# EAGLE library part TPS552882 (library ds_ic_vreg)
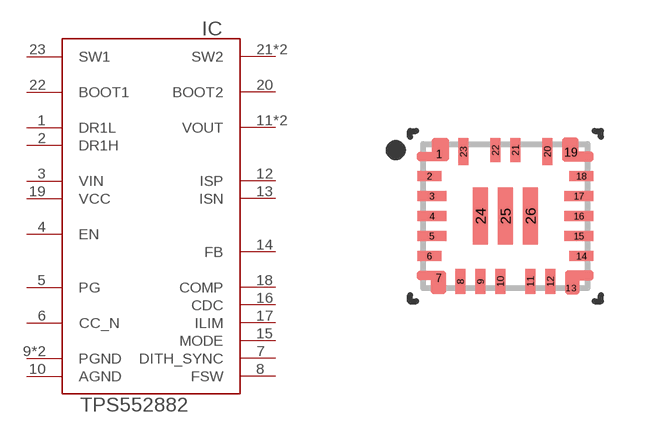
[diagram p22: symbol with the pads of RPM0026A-MFG; footprint RPM0026A-MFG]

Designator prefix IC

## TPS552882 (COPYRIGHT: Copyright (C) 2025 Ultra Librarian. All rights reserved.; DATASHEET: https://www.ti.com/lit/ds/symlink/tps552882-q1.pdf?ts=1746222078398&ref_url=https%253A%252F%252Fwww.ti.com%252Fproduct%252FTPS552882-Q1; MANUFACTURER_PART_NUMBER: TPS552882QRPMRQ1; MFR_NAME: Texas Instruments; REFDES: RefDes; TYPE: TYPE)  [RPM0026A-MFG]
1  DR1L  out
2  DR1H  out
3  VIN  pwr
4  EN  in
5  PG  out
6  CC_N  out
7  DITH_SYNC  in
8  FSW  in
9  PGND  pwr
10  AGND  pwr
11  VOUT  pwr
12  ISP  in
13  ISN  in
14  FB  in
15  MODE  in
16  CDC  out
17  ILIM  out
18  COMP  in
19  VCC  pwr
20  BOOT2  pwr
21  SW2  pwr
22  BOOT1  pwr
23  SW1  pwr
24  PGND  pwr
25  SW2  pwr
26  VOUT  pwr

## Footprint RPM0026A-MFG (pad centres in mm)
smd 0.306 x 0.306: 1 -1.661,1.555
smd 0.6 x 0.25: 2 -1.9,1; 6 -1.9,-1; 14 1.9,-1; 18 1.9,1
smd 0.725 x 0.25: 3 -1.837,0.5; 4 -1.837,0; 5 -1.837,-0.5; 15 1.837,-0.5; 16 1.837,0; 17 1.837,0.5
smd 0.29 x 0.29: 7 -1.661,-1.554
smd 0.25 x 0.625: 8 -1.125,-1.637; 9 -0.625,-1.637; 10 -0.125,-1.637; 11 0.625,-1.637; 12 1.125,-1.637
smd 0.259 x 0.259: 13 1.644,-1.805
smd 0.332 x 0.332: 19 1.641,1.591
smd 0.25 x 0.675: 20 1.05,1.613; 23 -1.05,1.613
smd 0.25 x 0.6: 21 0.25,1.65; 22 -0.25,1.65
smd 0.375 x 1.425: 24 -0.625,0; 25 0,0; 26 0.625,0